# EAGLE library part X_STECKERLEISTE_DOPPELT_15 (library ++Bedrahtet)
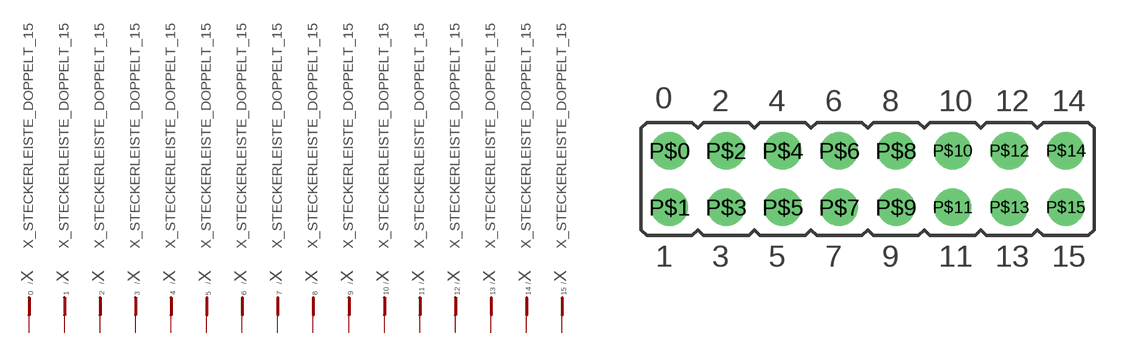
[diagram p14: symbol with the pads of SECKERLEISTE_DOPPELT_15; footprint SECKERLEISTE_DOPPELT_15]

Designator prefix X; gates 1=STIFTPIN 2=STIFTPIN 3=STIFTPIN 4=STIFTPIN 5=STIFTPIN 6=STIFTPIN 7=STIFTPIN 8=STIFTPIN 9=STIFTPIN 10=STIFTPIN 11=STIFTPIN 12=STIFTPIN 13=STIFTPIN 14=STIFTPIN 15=STIFTPIN 0=STIFTPIN

## X_STECKERLEISTE_DOPPELT_15  [SECKERLEISTE_DOPPELT_15]
P$0  0:P
P$1  1:P
P$2  2:P
P$3  3:P
P$4  4:P
P$5  5:P
P$6  6:P
P$7  7:P
P$8  8:P
P$9  9:P
P$10  10:P
P$11  11:P
P$12  12:P
P$13  13:P
P$14  14:P
P$15  15:P

## Footprint SECKERLEISTE_DOPPELT_15 (pad centres in mm)
drill 1 pad 1.676: P$0 -8.89,1.27; P$1 -8.89,-1.27; P$2 -6.35,1.27; P$3 -6.35,-1.27; P$4 -3.81,1.27; P$5 -3.81,-1.27; P$6 -1.27,1.27; P$7 -1.27,-1.27; P$8 1.27,1.27; P$9 1.27,-1.27; P$10 3.81,1.27; P$11 3.81,-1.27; P$12 6.35,1.27; P$13 6.35,-1.27; P$14 8.89,1.27; P$15 8.89,-1.27